# EAGLE library part LTC3639 (library LM555-SHAYAN-NOORANI)
LTC3639 DC-DC Regulator Datasheet <https://www.mouser.com/datasheet/2/609/3639fd-1271210.pdf>
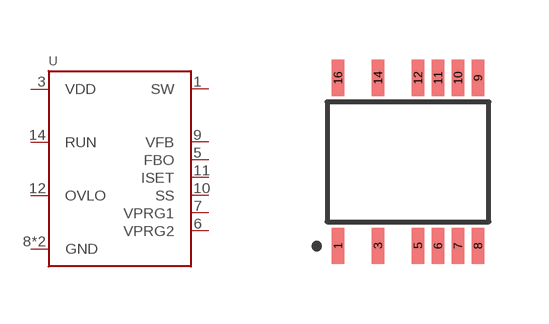
[diagram p28: symbol with the pads of MSE16(12); footprint MSE16(12)]

Designator prefix U

## LTC3639 (DKPN: LTC3639EMSE#TRPBFTR-ND; MANUFACTURER: Analog Devices Inc.; MOPN: 584-LTC3639EMSETRPBF; MPN: LTC3639EMSE#TRPBF)  [MSE16(12)]
1  SW  pwr
3  VDD  pwr
5  FBO  out
6  VPRG2  in
7  VPRG1  in
8  GND  pwr
9  VFB  in
10  SS  in
11  ISET
12  OVLO  in
14  RUN  in
16  GND  pwr

## Footprint MSE16(12) (pad centres in mm)
MSE16 (12) A variation of MSOP16 with 4 pins removed. Datasheet <https://www.analog.com/media/en/package-pcb-resources/package/pkg_pdf/ltc-legacy-msop/05081871_D_MSE16(12).pdf>
smd 0.309 x 0.902: 1 -1.75,-2.102; 3 -0.75,-2.102; 5 0.25,-2.102; 6 0.75,-2.102; 7 1.25,-2.102; 8 1.75,-2.102; 9 1.75,2.102; 10 1.25,2.102; 11 0.75,2.102; 12 0.25,2.102; 14 -0.75,2.102; 16 -1.75,2.102